# Altium footprint library B_S-1WR3.PcbLib: 1 footprints
Each footprint in its own frame and in the unit in brackets; x right, y up, seen from the top. Pads: shape width x height; smd on the part's side, far side on the other; paste and mask are expansions set on the pad; w line width, h text height; cw(c..) or ccw(c..) is an arc to the next point about the centre after c.
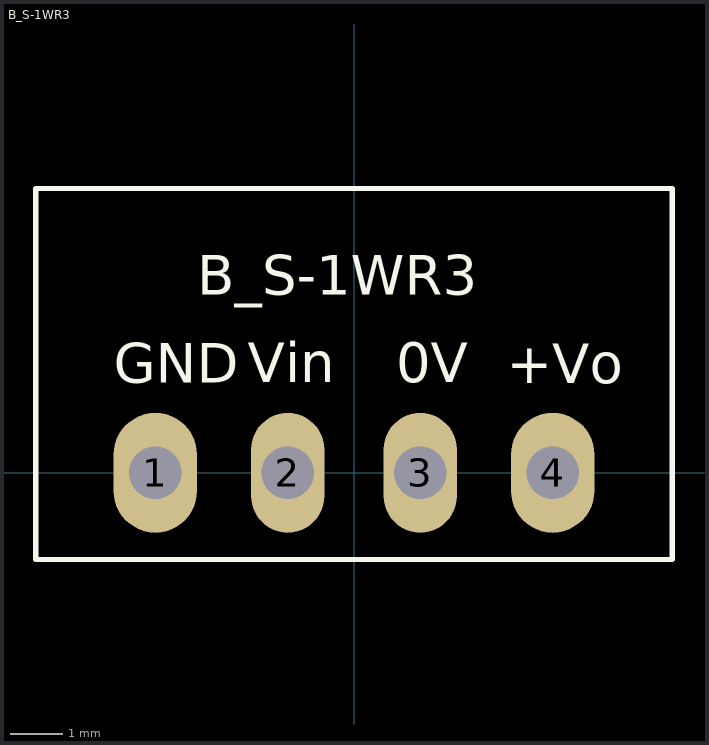
[diagram p0: the footprint, top view; thin cyan lines are the x and y axes]

## B_S-1WR3 [mm]
pads (4):
  oval 1.6x2.3 hole 1: 1(-3.81,0) 4(3.81,0)
  oval 1.4x2.3 hole 1: 2(-1.27,0) 3(1.27,0)
Top Overlay:
  lines w0.1: -6.1,-1.662 6.1,-1.662 6.1,5.45 -6.1,5.45 -6.1,-1.662
  text "GND" at -4.607,1.724 h0.76
  text "B_S-1WR3" at -3.006,3.418 h0.76
  text "Vin" at -2.034,1.731 h0.76
  text "+Vo" at 2.93,1.716 h0.76
  text "0V" at 0.808,1.734 h0.76
3D body: height 10.2, standoff -4.06, extent -5.814,-0.884 5.786,5.116